# Altium footprint library TNPW060387K6BEEA.PcbLib: 3 footprints
Each footprint in its own frame and in the unit in brackets; x right, y up, seen from the top. Pads: shape width x height; smd on the part's side, far side on the other; paste and mask are expansions set on the pad; w line width, h text height; cw(c..) or ccw(c..) is an arc to the next point about the centre after c.
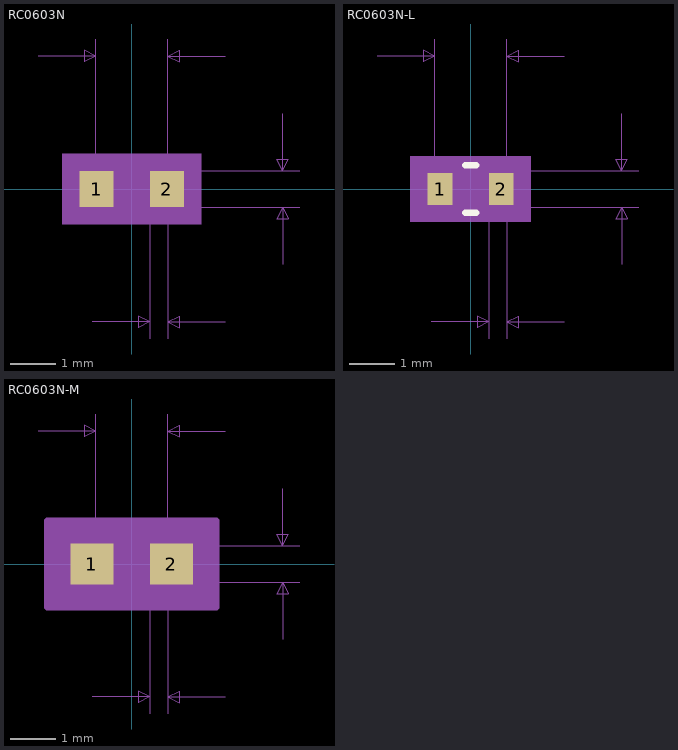
[diagram p0: the footprints below, top view; thin cyan lines are the x and y axes]

## RC0603N [mm]
pads (2):
  rect 0.756x0.8 smd: 1(-0.778,0) 2(0.778,0)
Mechanical 5:
  region: 1.537,-0.781 -1.537,-0.781 -1.537,0.781 1.537,0.781
Mechanical 7:
  lines w0.025: -2.07,2.94 -0.8,2.94 ; -0.87,-2.94 0.4,-2.94 ; -0.8,0 -0.8,3.321 ; 0,-0.4 3.721,-0.4 ; 0,0.4 3.721,0.4 ; 0.4,-3.321 0.4,0 ; 0.8,-3.321 0.8,0 0.8,3.321 ; 2.07,-2.94 0.8,-2.94 ; 2.07,2.94 0.8,2.94 ; 3.34,-1.67 3.34,-0.4 ; 3.34,1.67 3.34,0.4 ; -0.8,2.94 -1.054,3.067 -1.054,2.813 -0.8,2.94 ; 0.4,-2.94 0.146,-2.813 0.146,-3.067 0.4,-2.94 ; 0.8,-2.94 1.054,-2.813 1.054,-3.067 0.8,-2.94 ; 0.8,2.94 1.054,3.067 1.054,2.813 0.8,2.94 ; 3.34,-0.4 3.213,-0.654 3.467,-0.654 3.34,-0.4 ; 3.34,0.4 3.213,0.654 3.467,0.654 3.34,0.4
  text "Default Padstyle: RX29p75Y31p5D0T" at -10.477,-7.258 h1.27
  text "Alternate 1 Padstyle: OX60Y90D30P" at -10.477,-9.798 h1.27
  text "Alternate 2 Padstyle: OX90Y60D30P" at -10.477,-12.338 h1.27
  text "0.031in/0.8mm" at 3.848,-0.318 h0.64
  text "0.063in/1.6mm" at -2.064,3.448 h0.64
  text "0.016in/0.4mm" at -1.464,-4.083 h0.64
Mechanical 13:
  lines w0.025: -0.8,-0.4 -0.8,0.4 ; -0.8,-0.4 -0.4,-0.4 -0.4,0.4 -0.8,0.4 ; -0.8,-0.4 0.8,-0.4 ; -0.8,-0.4 -0.8,0.4 ; -0.8,0.4 0.8,0.4 ; 0.8,-0.4 0.4,-0.4 0.4,0.4 0.8,0.4 ; 0.8,-0.4 0.8,0.4 ; 0.8,-0.4 0.8,0.4
Mechanical 15:
  region: 1.41,-0.654 -1.41,-0.654 -1.41,0.654 1.41,0.654
  lines w0.152: -1.41,-0.654 -1.41,0.654 1.41,0.654 1.41,-0.654 -1.41,-0.654
3D body: height 0.25, standoff 0, extent 0,0 0.254,0.254

## RC0603N-L [mm]
pads (2):
  rect 0.552x0.698 smd paste+0 mask+0: 1(-0.676,0) 2(0.676,0)
Top Overlay:
  lines w0.152: -0.119,-0.527 0.119,-0.527 ; -0.119,0.527 0.119,0.527
Mechanical 5:
  region: 1.333,-0.73 -1.333,-0.73 -1.333,0.73 1.333,0.73
Mechanical 7:
  lines w0.025: -2.07,2.94 -0.8,2.94 ; -0.87,-2.94 0.4,-2.94 ; -0.8,0 -0.8,3.321 ; 0,-0.4 3.721,-0.4 ; 0,0.4 3.721,0.4 ; 0.4,-3.321 0.4,0 ; 0.8,-3.321 0.8,0 0.8,3.321 ; 2.07,-2.94 0.8,-2.94 ; 2.07,2.94 0.8,2.94 ; 3.34,-1.67 3.34,-0.4 ; 3.34,1.67 3.34,0.4 ; -0.8,2.94 -1.054,3.067 -1.054,2.813 -0.8,2.94 ; 0.4,-2.94 0.146,-2.813 0.146,-3.067 0.4,-2.94 ; 0.8,-2.94 1.054,-2.813 1.054,-3.067 0.8,-2.94 ; 0.8,2.94 1.054,3.067 1.054,2.813 0.8,2.94 ; 3.34,-0.4 3.213,-0.654 3.467,-0.654 3.34,-0.4 ; 3.34,0.4 3.213,0.654 3.467,0.654 3.34,0.4
  text "Default Padstyle: RX21p75Y27p5D0T" at -10.477,-7.207 h1.27
  text "Alternate 1 Padstyle: OX60Y90D30P" at -10.477,-9.747 h1.27
  text "Alternate 2 Padstyle: OX90Y60D30P" at -10.477,-12.287 h1.27
  text "0.031in/0.8mm" at 3.848,-0.318 h0.64
  text "0.063in/1.6mm" at -2.064,3.448 h0.64
  text "0.016in/0.4mm" at -1.464,-4.083 h0.64
Mechanical 13:
  lines w0.025: -0.8,-0.4 -0.8,0.4 ; -0.8,-0.4 -0.4,-0.4 -0.4,0.4 -0.8,0.4 ; -0.8,-0.4 0.8,-0.4 ; -0.8,-0.4 -0.8,0.4 ; -0.8,0.4 0.8,0.4 ; 0.8,-0.4 0.4,-0.4 0.4,0.4 0.8,0.4 ; 0.8,-0.4 0.8,0.4 ; 0.8,-0.4 0.8,0.4
Mechanical 15:
  region: 1.054,-0.451 -1.054,-0.451 -1.054,0.451 1.054,0.451
  lines w0.152: -1.054,-0.451 -1.054,0.451 1.054,0.451 1.054,-0.451 -1.054,-0.451
3D body: height 0.25, standoff 0, extent 0,0 0.254,0.254

## RC0603N-M [mm]
pads (2):
  rect 0.959x0.902 smd paste+0 mask+0: 1(-0.879,0) 2(0.879,0)
Mechanical 5:
  region: 1.74,-0.832 -1.74,-0.832 -1.74,0.832 1.74,0.832
Mechanical 7:
  lines w0.025: -2.07,2.94 -0.8,2.94 ; -0.87,-2.94 0.4,-2.94 ; -0.8,0 -0.8,3.321 ; 0,-0.4 3.721,-0.4 ; 0,0.4 3.721,0.4 ; 0.4,-3.321 0.4,0 ; 0.8,-3.321 0.8,0 0.8,3.321 ; 2.07,-2.94 0.8,-2.94 ; 2.07,2.94 0.8,2.94 ; 3.34,-1.67 3.34,-0.4 ; 3.34,1.67 3.34,0.4 ; -0.8,2.94 -1.054,3.067 -1.054,2.813 -0.8,2.94 ; 0.4,-2.94 0.146,-2.813 0.146,-3.067 0.4,-2.94 ; 0.8,-2.94 1.054,-2.813 1.054,-3.067 0.8,-2.94 ; 0.8,2.94 1.054,3.067 1.054,2.813 0.8,2.94 ; 3.34,-0.4 3.213,-0.654 3.467,-0.654 3.34,-0.4 ; 3.34,0.4 3.213,0.654 3.467,0.654 3.34,0.4
  text "Default Padstyle: RX37p75Y35p5D0T" at -10.477,-7.309 h1.27
  text "Alternate 1 Padstyle: OX60Y90D30P" at -10.477,-9.849 h1.27
  text "Alternate 2 Padstyle: OX90Y60D30P" at -10.477,-12.389 h1.27
  text "0.031in/0.8mm" at 3.848,-0.318 h0.64
  text "0.063in/1.6mm" at -2.064,3.448 h0.64
  text "0.016in/0.4mm" at -1.464,-4.083 h0.64
Mechanical 13:
  lines w0.025: -0.8,-0.4 -0.8,0.4 ; -0.8,-0.4 -0.4,-0.4 -0.4,0.4 -0.8,0.4 ; -0.8,-0.4 0.8,-0.4 ; -0.8,-0.4 -0.8,0.4 ; -0.8,0.4 0.8,0.4 ; 0.8,-0.4 0.4,-0.4 0.4,0.4 0.8,0.4 ; 0.8,-0.4 0.8,0.4 ; 0.8,-0.4 0.8,0.4
Mechanical 15:
  region: 1.867,-0.959 -1.867,-0.959 -1.867,0.959 1.867,0.959
  lines w0.152: -1.867,-0.959 -1.867,0.959 1.867,0.959 1.867,-0.959 -1.867,-0.959
3D body: height 0.25, standoff 0, extent 0,0 0.254,0.254